# Altium footprint library LEDs and Displays.PcbLib: 29 footprints (part 2 of 2)
Each footprint in its own frame and in the unit in brackets; x right, y up, seen from the top. Pads: shape width x height; smd on the part's side, far side on the other; paste and mask are expansions set on the pad; w line width, h text height; cw(c..) or ccw(c..) is an arc to the next point about the centre after c.
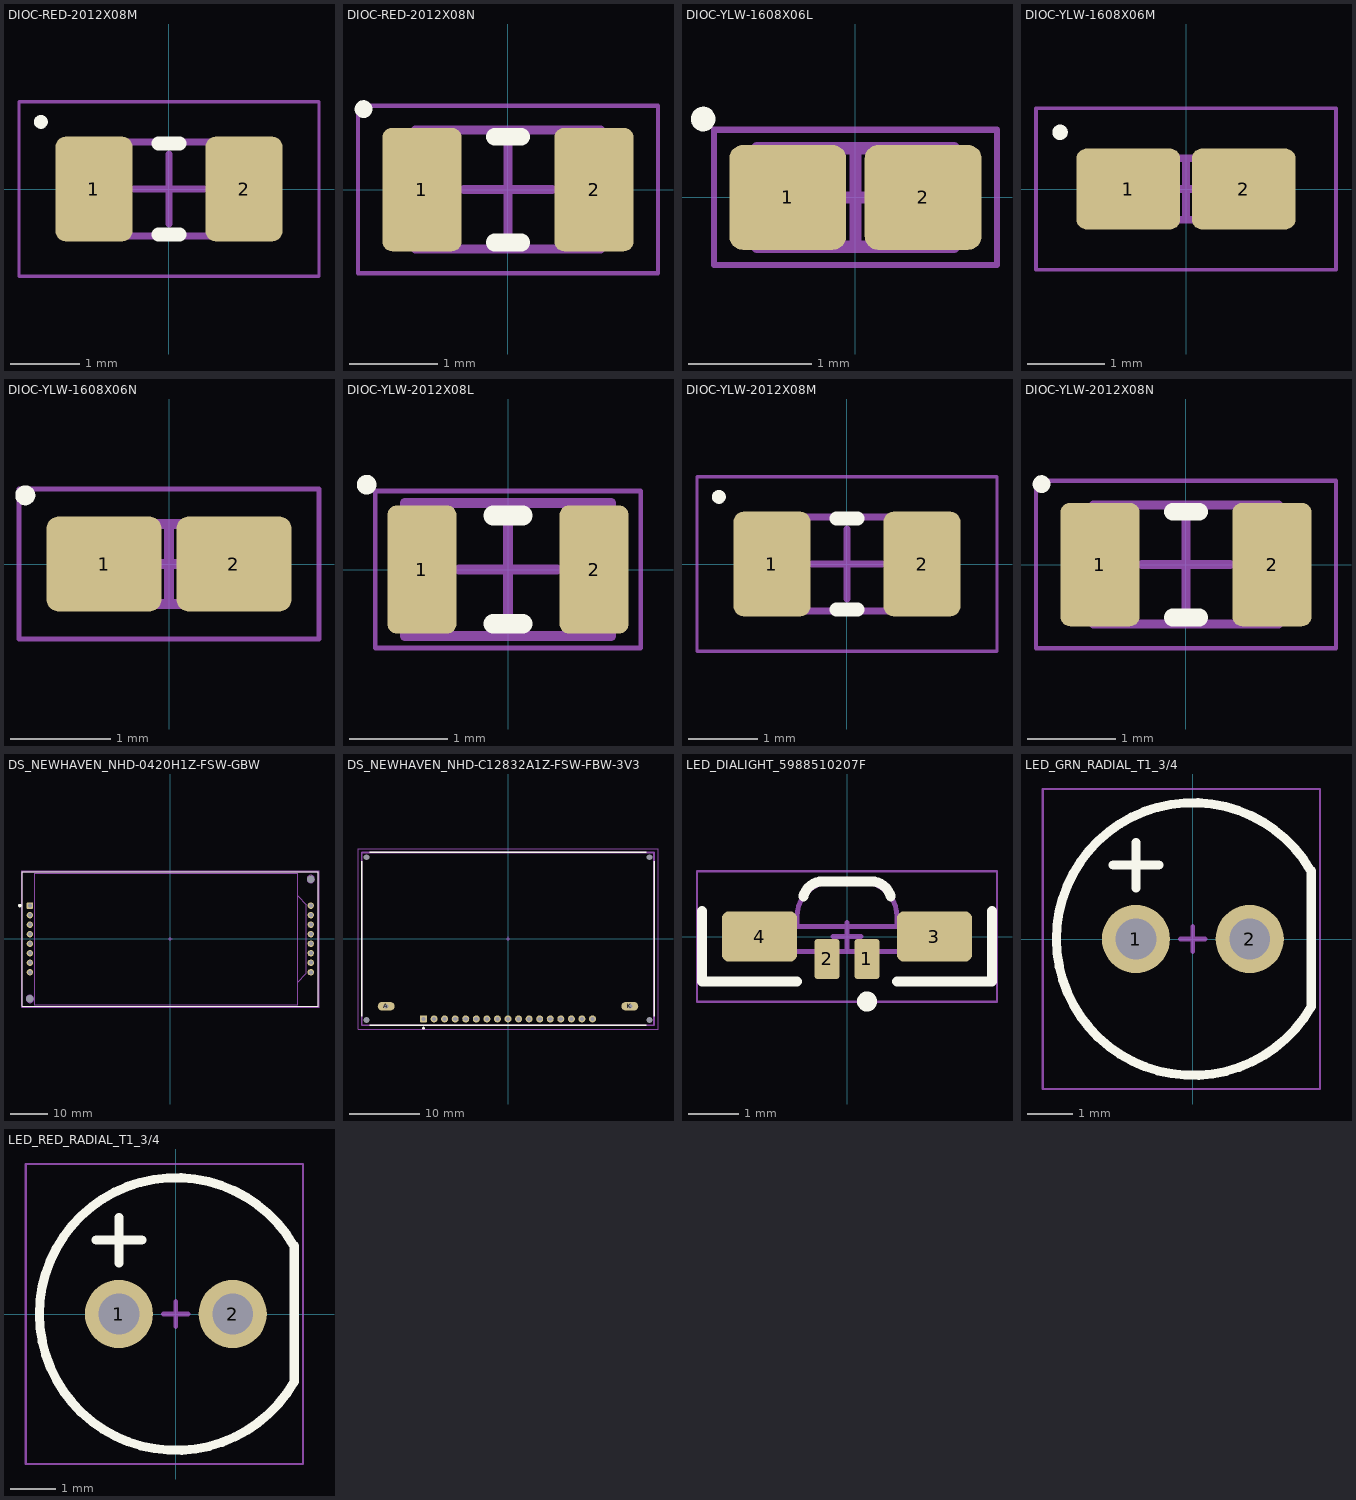
[diagram p1: the footprints below, top view; thin cyan lines are the x and y axes]

## DIOC-RED-2012X08M [mm] "Chip Diode Red, 2-Leads, Body 2.00x1.25mm, IPC Low Density"
height 0.8
pads (2):
  rrect25% 1.1x1.5 smd paste+0 mask+0.05: 1(-1.075,0) 2(1.075,0)
Top Overlay:
  circle w0.1: c-1.837,0.962 r0.05
  lines w0.2: -0.15,-0.65 0.15,-0.65 ; -0.15,0.65 0.15,0.65
Top Component Outline:
  lines w0.1: -1.05,-0.675 -1.05,0.675 1.05,0.675 1.05,-0.675 -1.05,-0.675
Top Courtyard:
  lines w0.05: -2.15,-1.25 2.15,-1.25 2.15,1.25 -2.15,1.25 -2.15,-1.25
Top Component Center:
  lines w0.1: -0.5,0 0.5,0 ; 0,-0.5 0,0.5
Top Designator:
  text ".Designator" at -4.04,-0.476 h2
Top Assembly:
  lines w0.1: -1.05,-0.675 1.05,-0.675 1.05,0.675 -1.05,0.675 -1.05,-0.675
  text ".Designator" at -4.04,-0.476 h2
  text "A" at 0.563,0.801 h1
  text "K" at -1.02,0.801 h1
3D body "LED_0805_R.step": height 1.1, standoff 0, extent -1.01,-0.625 1.01,0.625

## DIOC-RED-2012X08N [mm] "Chip Diode Red, 2-Leads, Body 2.00x1.25mm, IPC Medium Density"
height 0.8
pads (2):
  rrect25% 0.9x1.4 smd paste+0 mask+0.05: 1(-0.975,0) 2(0.975,0)
Top Overlay:
  circle w0.1: c-1.637,0.912 r0.05
  lines w0.2: -0.15,-0.6 0.15,-0.6 ; -0.15,0.6 0.15,0.6
Top Component Outline:
  lines w0.1: -1.05,-0.675 1.05,-0.675 1.05,0.675 -1.05,0.675 -1.05,-0.675
Top Courtyard:
  lines w0.05: -1.7,-0.95 1.7,-0.95 1.7,0.95 -1.7,0.95 -1.7,-0.95
Top Component Center:
  lines w0.1: -0.5,0 0.5,0 ; 0,-0.5 0,0.5
Top Designator:
  text ".Designator" at -4.04,-0.476 h2
Top Assembly:
  lines w0.1: -1.05,-0.675 1.05,-0.675 1.05,0.675 -1.05,0.675 -1.05,-0.675
  text "K" at -1.02,0.801 h1
  text "A" at 0.563,0.801 h1
  text ".Designator" at -4.04,-0.476 h2
3D body "LED_0805_R.step": height 1.1, standoff 0, extent -1.01,-0.625 1.01,0.625

## DIOC-YLW-1608X06L [mm] "Chip Diode Yellow, 2-Leads, Body 1.60x0.80mm, IPC High Density"
height 0.55
pads (2):
  rrect25% 0.95x0.85 smd paste+0 mask+0.05: 1(-0.55,0) 2(0.55,0)
Top Overlay:
  circle w0.1: c-1.237,0.637 r0.05
Top Component Outline:
  lines w0.1: -0.8,-0.4 0.8,-0.4 0.8,0.4 -0.8,0.4 -0.8,-0.4
Top Courtyard:
  lines w0.05: -1.15,-0.55 -1.15,0.55 1.15,0.55 1.15,-0.55 -1.15,-0.55
Top Component Center:
  lines w0.1: -0.4,0 0.4,0 ; 0,-0.4 0,0.4
Top Designator:
  text ".Designator" at -4.04,-0.476 h2
Top Assembly:
  lines w0.1: -0.8,-0.4 -0.8,0.4 0.8,0.4 0.8,-0.4 -0.8,-0.4
  text "K" at -0.92,0.501 h1
  text "A" at 0.463,0.501 h1
  text ".Designator" at -4.04,-0.476 h2
3D body "LED_0603_Y.step": height 0.6, standoff 0, extent -0.8,-0.4 0.8,0.4

## DIOC-YLW-1608X06M [mm] "Chip Diode Yellow, 2-Leads, Body 1.60x0.80mm, IPC Low Density"
height 0.55
pads (2):
  rrect25% 1.35x1.05 smd paste+0 mask+0.05: 1(-0.75,0) 2(0.75,0)
Top Overlay:
  circle w0.1: c-1.637,0.737 r0.05
Top Component Outline:
  lines w0.1: -0.8,-0.4 -0.8,0.4 0.8,0.4 0.8,-0.4 -0.8,-0.4
Top Courtyard:
  lines w0.05: -1.95,-1.05 -1.95,1.05 1.95,1.05 1.95,-1.05 -1.95,-1.05
Top Component Center:
  lines w0.1: -0.4,0 0.4,0 ; 0,-0.4 0,0.4
Top Designator:
  text ".Designator" at -4.04,-0.476 h2
Top Assembly:
  lines w0.1: -0.8,-0.4 -0.8,0.4 0.8,0.4 0.8,-0.4 -0.8,-0.4
  text ".Designator" at -4.04,-0.476 h2
  text "A" at 0.463,0.501 h1
  text "K" at -0.92,0.501 h1
3D body "LED_0603_Y.step": height 0.6, standoff 0, extent -0.8,-0.4 0.8,0.4

## DIOC-YLW-1608X06N [mm] "Chip Diode Yellow, 2-Leads, Body 1.60x0.80mm, IPC Medium Density"
height 0.55
pads (2):
  rrect25% 1.15x0.95 smd paste+0 mask+0.05: 1(-0.65,0) 2(0.65,0)
Top Overlay:
  circle w0.1: c-1.437,0.687 r0.05
Top Component Outline:
  lines w0.1: -0.8,-0.4 0.8,-0.4 0.8,0.4 -0.8,0.4 -0.8,-0.4
Top Courtyard:
  lines w0.05: -1.5,-0.75 1.5,-0.75 1.5,0.75 -1.5,0.75 -1.5,-0.75
Top Component Center:
  lines w0.1: -0.4,0 0.4,0 ; 0,-0.4 0,0.4
Top Designator:
  text ".Designator" at -4.04,-0.476 h2
Top Assembly:
  lines w0.1: -0.8,-0.4 0.8,-0.4 0.8,0.4 -0.8,0.4 -0.8,-0.4
  text ".Designator" at -4.04,-0.476 h2
  text "K" at -0.92,0.501 h1
  text "A" at 0.463,0.501 h1
3D body "LED_0603_Y.step": height 0.6, standoff 0, extent -0.8,-0.4 0.8,0.4

## DIOC-YLW-2012X08L [mm] "Chip Diode Yellow, 2-Leads, Body 2.00x1.25mm, IPC High Density"
height 0.8
pads (2):
  rrect25% 0.7x1.3 smd paste+0 mask+0.05: 1(-0.875,0) 2(0.875,0)
Top Overlay:
  circle w0.1: c-1.437,0.862 r0.05
  lines w0.2: -0.15,-0.55 0.15,-0.55 ; -0.15,0.55 0.15,0.55
Top Component Outline:
  lines w0.1: -1.05,-0.675 1.05,-0.675 1.05,0.675 -1.05,0.675 -1.05,-0.675
Top Courtyard:
  lines w0.05: -1.35,-0.8 1.35,-0.8 1.35,0.8 -1.35,0.8 -1.35,-0.8
Top Component Center:
  lines w0.1: -0.5,0 0.5,0 ; 0,-0.5 0,0.5
Top Designator:
  text ".Designator" at -4.04,-0.476 h2
Top Assembly:
  lines w0.1: -1.05,-0.675 1.05,-0.675 1.05,0.675 -1.05,0.675 -1.05,-0.675
  text ".Designator" at -4.04,-0.476 h2
  text "K" at -1.02,0.801 h1
  text "A" at 0.563,0.801 h1
3D body "LED_0805_Y.step": height 1.1, standoff 0, extent -1.01,-0.625 1.01,0.625

## DIOC-YLW-2012X08M [mm] "Chip Diode Yellow, 2-Leads, Body 2.00x1.25mm, IPC Low Density"
height 0.8
pads (2):
  rrect25% 1.1x1.5 smd paste+0 mask+0.05: 1(-1.075,0) 2(1.075,0)
Top Overlay:
  circle w0.1: c-1.837,0.962 r0.05
  lines w0.2: -0.15,-0.65 0.15,-0.65 ; -0.15,0.65 0.15,0.65
Top Component Outline:
  lines w0.1: -1.05,-0.675 -1.05,0.675 1.05,0.675 1.05,-0.675 -1.05,-0.675
Top Courtyard:
  lines w0.05: -2.15,-1.25 2.15,-1.25 2.15,1.25 -2.15,1.25 -2.15,-1.25
Top Component Center:
  lines w0.1: -0.5,0 0.5,0 ; 0,-0.5 0,0.5
Top Designator:
  text ".Designator" at -4.04,-0.476 h2
Top Assembly:
  lines w0.1: -1.05,-0.675 1.05,-0.675 1.05,0.675 -1.05,0.675 -1.05,-0.675
  text ".Designator" at -4.04,-0.476 h2
  text "A" at 0.563,0.801 h1
  text "K" at -1.02,0.801 h1
3D body "LED_0805_Y.step": height 1.1, standoff 0, extent -1.01,-0.625 1.01,0.625

## DIOC-YLW-2012X08N [mm] "Chip Diode Yellow, 2-Leads, Body 2.00x1.25mm, IPC Medium Density"
height 0.8
pads (2):
  rrect25% 0.9x1.4 smd paste+0 mask+0.05: 1(-0.975,0) 2(0.975,0)
Top Overlay:
  circle w0.1: c-1.637,0.912 r0.05
  lines w0.2: -0.15,-0.6 0.15,-0.6 ; -0.15,0.6 0.15,0.6
Top Component Outline:
  lines w0.1: -1.05,-0.675 1.05,-0.675 1.05,0.675 -1.05,0.675 -1.05,-0.675
Top Courtyard:
  lines w0.05: -1.7,-0.95 1.7,-0.95 1.7,0.95 -1.7,0.95 -1.7,-0.95
Top Component Center:
  lines w0.1: -0.5,0 0.5,0 ; 0,-0.5 0,0.5
Top Designator:
  text ".Designator" at -4.04,-0.476 h2
Top Assembly:
  lines w0.1: -1.05,-0.675 1.05,-0.675 1.05,0.675 -1.05,0.675 -1.05,-0.675
  text "K" at -1.02,0.801 h1
  text "A" at 0.563,0.801 h1
  text ".Designator" at -4.04,-0.476 h2
3D body "LED_0805_Y.step": height 1.1, standoff 0, extent -1.01,-0.625 1.01,0.625

## DS_NEWHAVEN_NHD-0420H1Z-FSW-GBW [mm] "Character Display Module Transflective 5 x 8 Dots STN - Super-Twisted Nematic LED - White Parallel 79.00mm x 36.00mm x 13.00mm"
height 12.735
pads (18):
  rrect25% 1.7x1.7 hole 1.07 paste-1000 mask+0.05: 1(-37.5,8.89)
  round 1.7 hole 1.07 paste-1000 mask+0.05: 2(-37.5,6.35) 3(-37.5,3.81) 4(-37.5,1.27) 5(-37.5,-1.27) 6(-37.5,-3.81) 7(-37.5,-6.35) 8(-37.5,-8.89) 9(37.5,8.89) 10(37.5,6.35) 11(37.5,3.81) 12(37.5,1.27) 13(37.5,-1.27) 14(37.5,-3.81) 15(37.5,-6.35) 16(37.5,-8.89)
  round 0 hole 2 unplated paste-1000 mask+0: ""(-37.5,-16) ""(37.5,16)
Top Overlay:
  circle w0.5: c-40.2,8.9 r0.2
  lines w0.2: -39.487,-18 39.513,-18 39.513,18 -39.487,18 -39.487,-18
Top Component Outline:
  lines w0.1: -39.487,-18 39.513,-18 39.513,18 -39.487,18 -39.487,-18
Top Courtyard:
  lines w0.05: -39.7,-18.21 39.7,-18.21 39.7,18.19 -39.7,18.19 -39.7,17.99 -39.7,-18.21
Top Component Center:
  lines w0.1: -0.5,0 0.5,0 ; 0,-0.5 0,0.5
Top Designator:
  text ".Designator" at -4.04,-0.476 h2
Top Assembly:
  circle w0.1: c-37.5,-16 r1
  circle w0.1: c37.5,16 r1
  lines w0.1: 34,-11.5 36.3,-9.2 36.3,9.2 34,11.5 ; -39.5,-17.91 -39.4,-18.01 39.5,-18.01 39.5,17.99 -39.5,17.99 -39.5,-17.91 ; -36.3,-17.5 34,-17.5 34,17.5 -36.3,17.5 -36.3,-17.5
  text ".Designator" at -4.04,-0.476 h2
3D body "NEWHAVEN_NHD-0420H1Z.step": height 12.73, standoff -6.01, extent -39.5,-18 39.5,18

## DS_NEWHAVEN_NHD-C12832A1Z-FSW-FBW-3V3 [mm] "Graphic LCD Display Module Transflective Black (White - Inverted) FSTN - Film Super-Twisted Nematic SPI 128 x 32"
height 4
pads (23):
  rrect25% 1x1 hole 0.6 paste+0 mask+0.05: 1(-12,-11.4)
  round 1 hole 0.6 paste+0 mask+0.05: 2(-10.5,-11.4) 3(-9,-11.4) 4(-7.5,-11.4) 5(-6,-11.4) 6(-4.5,-11.4) 7(-3,-11.4) 8(-1.5,-11.4) 9(0,-11.4) 10(1.5,-11.4) 11(3,-11.4) 12(4.5,-11.4) 13(6,-11.4) 14(7.5,-11.4) 15(9,-11.4) 16(10.5,-11.4) 17(12,-11.4)
  oval 2.4x1.2 hole 0.7 square paste+0 mask+0.05: A(-17.3,-9.6) K(17.3,-9.6)
  round 0 hole 0.8 unplated paste+0 mask+0: ""(-20.1,-11.55) ""(-20.1,11.55) ""(20.1,-11.557) ""(20.1,11.55)
Top Overlay:
  circle w0.2: c-12,-12.7 r0.1
  lines w0.2: -20.8,-11 -20.8,11 ; -19.6,-12.3 19.6,-12.3 ; -19.6,12.3 19.6,12.3 ; 20.8,-11 20.8,11
Top Component Outline:
  lines w0.1: -20.7,-12.2 20.7,-12.2 20.7,12.2 -20.7,12.2 -20.7,-12.2
Top Courtyard:
  lines w0.05: -21.3,-12.9 21.3,-12.9 21.3,12.8 -21.3,12.8 -21.3,-12.9
Top Component Center:
  lines w0.1: -0.275,0 0.275,0 ; 0,-0.275 0,0.275
Top Designator:
  text ".Designator" at -4.04,-0.476 h2
Top Assembly:
  lines w0.2: -20.8,-12.3 20.8,-12.3 20.8,12.3 -20.8,12.3 -20.8,-12.3
  text ".Designator" at -4.04,-0.476 h2
3D body "NEWHAVEN_NHD-C12832A1Z.step": height 4, standoff -3, extent -20.7,-12.15 20.7,12.15

## LED_DIALIGHT_5988510207F [mm] "LED Red - Yellow/Green Dialight Right Angle view"
height 0.39
pads (4):
  rrect25% 0.5x0.8 smd paste+0 mask+0.05: 1(0.4,-0.45) 2(-0.4,-0.45)
  rrect25% 1.5x1 smd paste+0 mask+0.05: 3(1.75,0) 4(-1.75,0)
Top Overlay:
  circle w0.2: c0.4,-1.3 r0.1
  lines w0.2: -2.9,0.508 -2.9,-0.9 -1,-0.9 ; -0.875,0.8 cw(c-0.487,0.703) -0.487,1.103 0.487,1.103 cw(c0.487,0.703) 0.875,0.8 ; 1,-0.9 2.9,-0.9 2.9,0.508
Top Component Outline:
  circle w0.2: c0.4,-0.6 r0.1
  lines w0.1: -1,0.2 -1,0.4 cw(c-0.309,0.4) -0.309,1.091 0.309,1.091 cw(c0.309,0.4) 1,0.4 1,0.2 ; -1.7,-0.3 -1.7,0.2 1.7,0.2 1.7,-0.3 -1.7,-0.3
Top Courtyard:
  lines w0.05: -3,-1.3 -3,1.3 3,1.3 3,-1.3 -3,-1.3
Top Component Center:
  lines w0.1: -0.275,0 0.275,0 ; 0,-0.275 0,0.275
Top Designator:
  text ".Designator" at -4.04,-0.476 h2
Top Assembly:
  circle w0.2: c0.4,-0.6 r0.1
  lines w0.1: -1,0.2 -1,0.4 cw(c-0.309,0.4) -0.309,1.091 0.309,1.091 cw(c0.309,0.4) 1,0.4 1,0.2 ; -1.7,-0.3 -1.7,0.2 1.7,0.2 1.7,-0.3 -1.7,-0.3
  text ".Designator" at -4.04,-0.476 h2
3D body "LED_1208_bi_and_tri.step": height 1, standoff 0, extent -1.6,-0.488 1.6,0.922

## LED_GRN_RADIAL_T1_3/4 [mm] "LED Standard Through-Hole Green"
height 21.822
pads (2):
  round 1.5 hole 0.9 paste-1000 mask+0.05: 1(-1.252,0) 2(1.252,0)
Top Overlay:
  lines w0.2: -1.75,1.625 -0.75,1.625 ; -1.25,1.125 -1.25,2.125 ; 2.597,1.502 ccw(c0,0) 2.603,-1.491 ; 2.606,-1.491 2.606,1.502
Top Component Outline:
  lines w0.1: 2.597,1.502 ccw(c0,0) 2.603,-1.491 ; 2.606,-1.491 2.606,1.502
Top Courtyard:
  lines w0.05: -3.3,-3.3 -3.3,3.3 2.8,3.3 2.8,-3.3 -3.3,-3.3
Top Component Center:
  lines w0.1: -0.275,0 0.275,0 ; 0,-0.275 0,0.275
Top Designator:
  text ".Designator" at -4.04,-0.476 h2
Top Assembly:
  lines w0.1: 2.597,1.502 ccw(c0,0) 2.603,-1.491 ; 2.606,-1.491 2.606,1.502
  text ".Designator" at -4.04,-0.476 h2
3D body "ESSENTRA_LEDS2M-500-01.step": height 13.2, standoff -0.01, extent -2.54,-2.54 2.54,2.54
3D body "LED_T1-34_XLxx12.step": height 21.82, standoff -13.78, extent -2.934,-2.95 2.5,2.95
3D body: height 19.75, standoff 14.25, extent -2.51,-2.51 2.51,2.51
3D body: height 22.26, standoff 17.24, extent -2.51,-2.51 2.51,2.51

## LED_RED_RADIAL_T1_3/4 [mm] "LED Standard Through-Hole Red"
height 21.822
pads (2):
  round 1.5 hole 0.9 paste-1000 mask+0.05: 1(-1.252,0) 2(1.252,0)
Top Overlay:
  lines w0.2: -1.75,1.625 -0.75,1.625 ; -1.25,1.125 -1.25,2.125 ; 2.597,1.502 ccw(c0,0) 2.603,-1.491 ; 2.606,-1.491 2.606,1.502
Top Component Outline:
  lines w0.1: 2.597,1.502 ccw(c0,0) 2.603,-1.491 ; 2.606,-1.491 2.606,1.502
Top Courtyard:
  lines w0.05: -3.3,-3.3 2.8,-3.3 2.8,3.3 -3.3,3.3 -3.3,-3.3
Top Component Center:
  lines w0.1: -0.275,0 0.275,0 ; 0,-0.275 0,0.275
Top Designator:
  text ".Designator" at -4.04,-0.476 h2
Top Assembly:
  lines w0.1: 2.597,1.502 ccw(c0,0) 2.603,-1.491 ; 2.606,-1.491 2.606,1.502
  text ".Designator" at -4.04,-0.476 h2
3D body: height 22.26, standoff 17.24, extent -2.51,-2.51 2.51,2.51
3D body: height 19.75, standoff 14.25, extent -2.51,-2.51 2.51,2.51
3D body "LED_T1-34_XLxx12.step": height 21.82, standoff -13.78, extent -2.934,-2.95 2.5,2.95
3D body "ESSENTRA_LEDS2M-500-01.step": height 13.2, standoff -0.01, extent -2.54,-2.54 2.54,2.54